# Altium footprint library PCB - CONNECTOR - JST - JST BM09B-SRSS-TB.PCBLIB: 1 footprints
Each footprint in its own frame and in the unit in brackets; x right, y up, seen from the top. Pads: shape width x height; smd on the part's side, far side on the other; paste and mask are expansions set on the pad; w line width, h text height; cw(c..) or ccw(c..) is an arc to the next point about the centre after c.
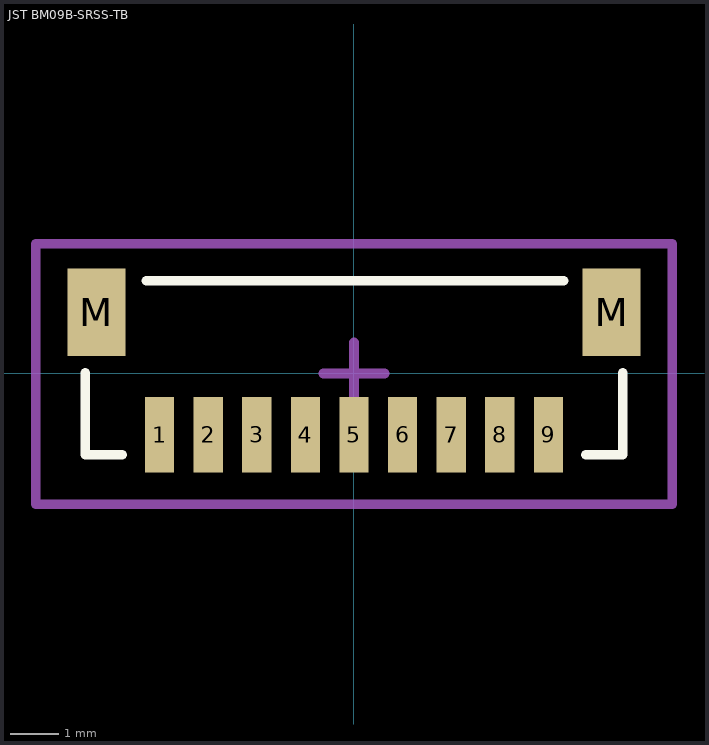
[diagram p0: the footprint, top view; thin cyan lines are the x and y axes]

## JST BM09B-SRSS-TB [mm] "1.0mm pitch/Disconnectable Crimp style connector"
height 2.95
pads (11):
  rect 0.6x1.55 smd: 1(-4,-1.262) 2(-3,-1.262) 3(-2,-1.262) 4(-1,-1.262) 5(0,-1.262) 6(1,-1.262) 7(2,-1.262) 8(3,-1.262) 9(4,-1.262)
  rect 1.2x1.8 smd: M(-5.3,1.263) M(5.3,1.263)
Top Overlay:
  lines w0.2: -5.532,0.008 -5.532,-1.676 -4.77,-1.676 ; -4.27,1.905 4.31,1.905 ; 4.77,-1.676 5.532,-1.676 5.532,0.008
Mechanical 15:
  lines w0.2: -0.635,0 0.635,0 ; 0,-0.635 0,0.635 ; -6.548,-2.692 -6.548,2.667 6.548,2.667 6.548,-2.692 -6.548,-2.692
3D body "JST BM09B-SRSS-TB.STEP": height 4.25, standoff -0.07, extent -5.5,-1.8 5.5,1.8